# EAGLE library part 74HC4051 (library NXP)
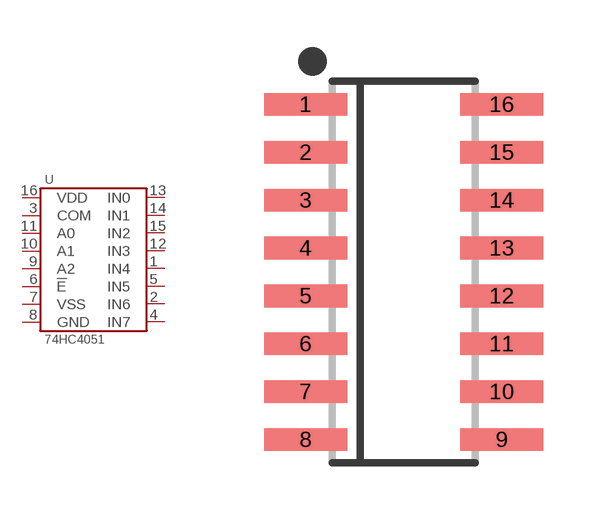
[diagram p3: symbol with the pads of SOIC-16; footprint SOIC-16]

Designator prefix U

## 74HC4051  [SOIC-16]
1  IN4
2  IN6
3  COM
4  IN7
5  IN5
6  !E
7  VSS
8  GND
9  A2
10  A1
11  A0
12  IN3
13  IN0
14  IN1
15  IN2
16  VDD

## Footprint SOIC-16 (pad centres in mm)
smd 2.2 x 0.6: 1 -2.6,4.445; 2 -2.6,3.175; 3 -2.6,1.905; 4 -2.6,0.635; 5 -2.6,-0.635; 6 -2.6,-1.905; 7 -2.6,-3.175; 8 -2.6,-4.445; 9 2.6,-4.445; 10 2.6,-3.175; 11 2.6,-1.905; 12 2.6,-0.635; 13 2.6,0.635; 14 2.6,1.905; 15 2.6,3.175; 16 2.6,4.445